# EAGLE library part MAX519 (library maxim-dac_rev2)
MAX519 Dual I²C-8bit-DA-Converter - created by Mario Blunk - electronics & IT engineering at www.train-z.de
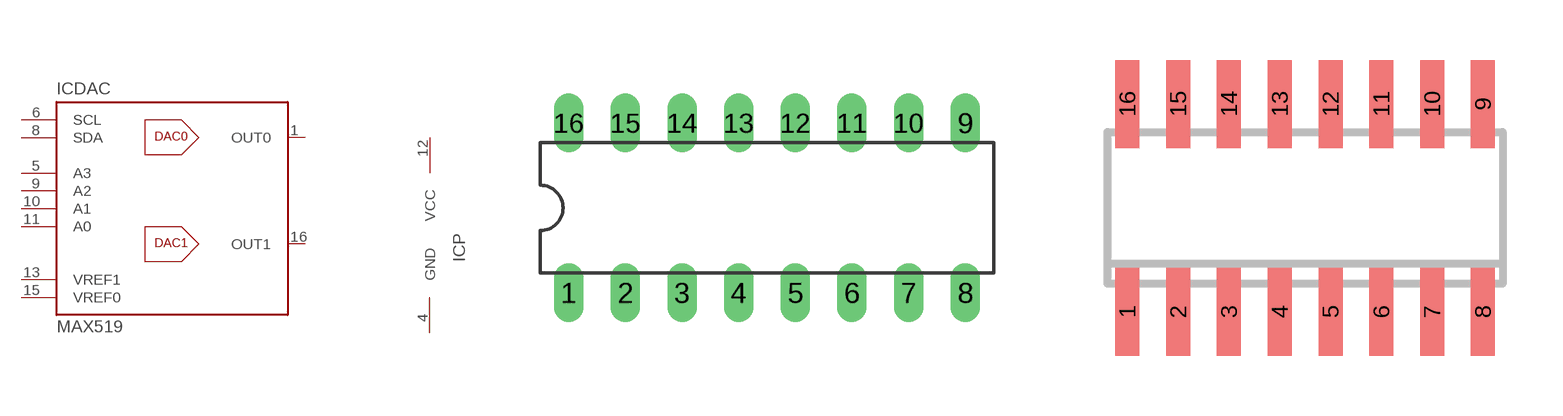
[diagram p2: symbol with the pads of DIL16; footprints DIL16, SO16]

Designator prefix IC; gates DAC=MAX519 P=PWR

## MAX519DIP  [DIL16]
1  DAC:OUT0  out
4  P:GND  pwr
5  DAC:A3  in
6  DAC:SCL
8  DAC:SDA
9  DAC:A2  in
10  DAC:A1  in
11  DAC:A0  in
12  P:VCC  pwr
13  DAC:VREF1  in
15  DAC:VREF0  in
16  DAC:OUT1  out

## MAX519SO  [SO16]
Pads as for DIL16

## Footprint DIL16 (pad centres in mm)
Dual In Line Package
drill 0.813 long: 1 -8.89,-3.81; 2 -6.35,-3.81; 3 -3.81,-3.81; 4 -1.27,-3.81; 5 1.27,-3.81; 6 3.81,-3.81; 7 6.35,-3.81; 8 8.89,-3.81; 9 8.89,3.81; 10 6.35,3.81; 11 3.81,3.81; 12 1.27,3.81; 13 -1.27,3.81; 14 -3.81,3.81; 15 -6.35,3.81; 16 -8.89,3.81

## Footprint SO16 (pad centres in mm)
SMALL OUTLINE INTEGRATED CIRCUIT body 3.9 mm/JEDEC MS-012AC
smd 0.6 x 2.2: 1 -4.445,-2.6; 2 -3.175,-2.6; 3 -1.905,-2.6; 4 -0.635,-2.6; 5 0.635,-2.6; 6 1.905,-2.6; 7 3.175,-2.6; 8 4.445,-2.6; 9 4.445,2.6; 10 3.175,2.6; 11 1.905,2.6; 12 0.635,2.6; 13 -0.635,2.6; 14 -1.905,2.6; 15 -3.175,2.6; 16 -4.445,2.6